# EAGLE library part LED-7-SEG-O (library Module)
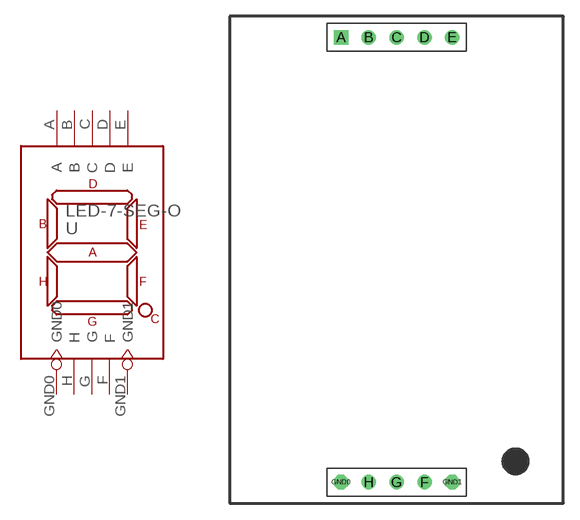
[diagram p10: symbol with the pads of 7-SEG-2.54-44.5X30.5; footprint 7-SEG-2.54-44.5X30.5]

Designator prefix U

## LED-7-SEG-O'2.1IN'  [7-SEG-2.54-44.5X30.5]
A  A
B  B
C  C
D  D
E  E
F  F
G  G
GND0  GND0
GND1  GND1
H  H

## Footprint 7-SEG-2.54-44.5X30.5 (pad centres in mm)
drill 0.813 square: A -5.08,20.32
drill 0.813 round: B -2.54,20.32; C 0,20.32; D 2.54,20.32; E 5.08,20.32; F 2.54,-20.32; G 0,-20.32; H -2.54,-20.32
drill 0.813 octagon: GND0 -5.08,-20.32; GND1 5.08,-20.32